# EAGLE library part LMC662 (library OU)
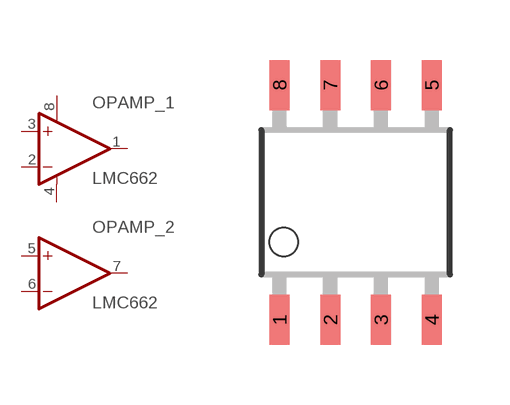
[diagram p3: symbol with the pads of SO08; footprint SO08]

Designator prefix OPAMP; gates _1=OP-AMP+- _2=OP-AMP

## LMC662  [SO08]
1  _1:OUT  out
2  _1:-IN  in
3  _1:+IN  in
4  _1:V-  pwr
5  _2:+IN  in
6  _2:-IN  in
7  _2:OUT  out
8  _1:V+  pwr

## Footprint SO08 (pad centres in mm)
Small Outline Package
smd 0.5 x 1.25: 1 -1.905,-2.934; 2 -0.635,-2.934; 3 0.635,-2.934; 4 1.905,-2.934; 5 1.905,2.934; 6 0.635,2.934; 7 -0.635,2.934; 8 -1.905,2.934